# EAGLE library part MMA7660FCR1 (library farnell-parts)
Detection Sensor
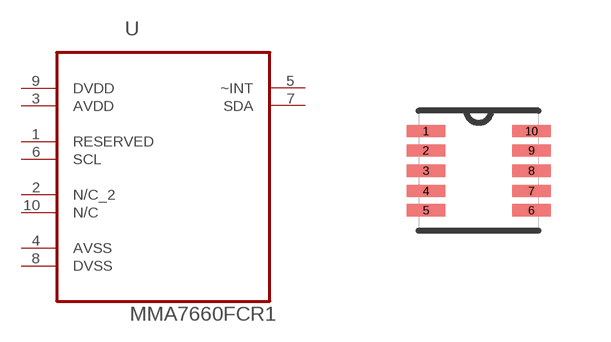
[diagram p9: symbol with the pads of DFN300X300X100-10N; footprint DFN300X300X100-10N]

Designator prefix U

## MMA7660FCR1 (MPN: MMA7660FCR1; OC_FARNELL: 2080493; OC_NEWARK: 74P0442; PACKAGE: DFN-10; SUPPLIER: FREESCALE SEMICONDUCTOR)  [DFN300X300X100-10N]
1  RESERVED  pas
2  N/C_2  nc
3  AVDD  pwr
4  AVSS  pwr
5  ~INT  out
6  SCL  in
7  SDA
8  DVSS  pwr
9  DVDD  pwr
10  N/C  nc

## Footprint DFN300X300X100-10N (pad centres in mm)
smd 0.965 x 0.305: 1 -1.321,0.991; 2 -1.321,0.508; 3 -1.321,0; 4 -1.321,-0.508; 5 -1.321,-0.991; 6 1.321,-0.991; 7 1.321,-0.508; 8 1.321,0; 9 1.321,0.508; 10 1.321,0.991